# Altium footprint library JST-XH TH 2.5mm 4-pos.PcbLib: 1 footprints
Each footprint in its own frame and in the unit in brackets; x right, y up, seen from the top. Pads: shape width x height; smd on the part's side, far side on the other; paste and mask are expansions set on the pad; w line width, h text height; cw(c..) or ccw(c..) is an arc to the next point about the centre after c.
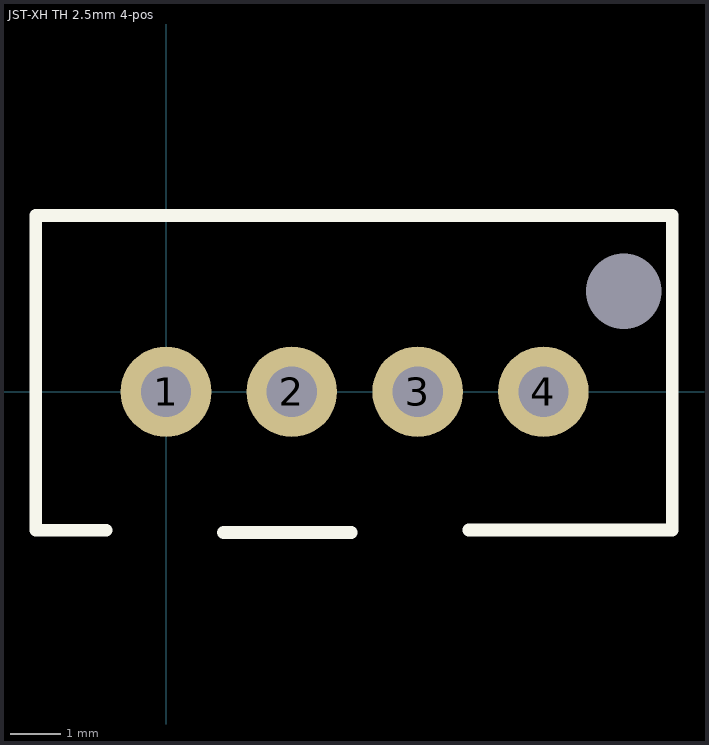
[diagram p0: the footprint, top view; thin cyan lines are the x and y axes]

## JST-XH TH 2.5mm 4-pos [mm]
pads (5):
  round 1.8 hole 1: 1(0,0) 2(2.5,0) 3(5,0) 4(7.5,0)
  round 0 hole 1.5 unplated: 1(9.1,2)
Top Overlay:
  lines w0.254: -1.187,-2.75 -2.587,-2.75 -2.587,3.5 10.058,3.5 10.058,-2.748 6.015,-2.748 ; 1.143,-2.794 3.683,-2.794
3D body "JST - XH - Thru - 4Pin - 2.5mm (Genuine).stp": height 7.21, standoff -3, extent -2.387,-2.489 9.787,3.353